# EAGLE library part TPS62901RPJR (library TPS62901RPJR)
Conv DC-DC 3V to 17V Synchronous Step Down Single-Out 0.4V to 5.5V 1A T/R Source: Datasheet <https://www.ti.com/lit/ds/symlink/tps62901.pdf?ts=1622532312813&ref_url=https%3A%2F%2Fwww.ti.com%2Fpower-management%2Fnon-isolated-dc-dc-switching-regulators%2Fstep-down-buck%2Fbuck-converter-integrated-switch%2Fproducts.html>
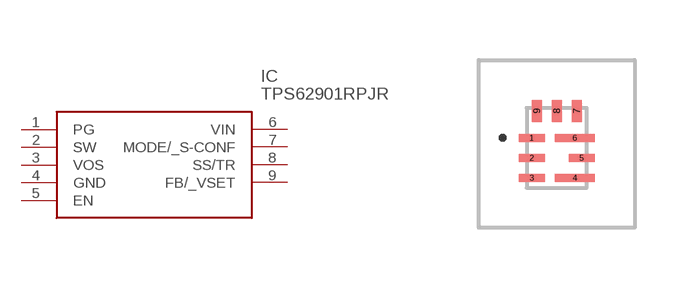
[diagram p0: symbol with the pads of TPS62901RPJR; footprint TPS62901RPJR]

Designator prefix IC

## TPS62901RPJR (Arrow_Part_Number: TPS62901RPJR; Arrow_Price-Stock: https://www.arrow.com/en/products/tps62901rpjr/texas-instruments?region=nac; Description: Conv DC-DC 3V to 17V Synchronous Step Down Single-Out 0.4V to 5.5V 1A T/R; Height: 1mm; Manufacturer_Name: Texas Instruments; Manufacturer_Part_Number: TPS62901RPJR; Mouser_Part_Number: 595-TPS62901RPJR; Mouser_Price-Stock: https://www.mouser.co.uk/ProductDetail/Texas-Instruments/TPS62901RPJR?qs=DRkmTr78QATDXNNljpwn1Q%3D%3D)  [TPS62901RPJR]
1  PG
2  SW
3  VOS
4  GND
5  EN
6  VIN
7  MODE/_S-CONF
8  SS/TR
9  FB/_VSET

## Footprint TPS62901RPJR (pad centres in mm)
TPS62901RPJR-4
smd 0.65 x 0.2: 1 -0.625,0.25; 2 -0.625,-0.25; 3 -0.625,-0.75; 5 0.625,-0.25
smd 1 x 0.2: 4 0.45,-0.75; 6 0.45,0.25
smd 0.25 x 0.55: 7 0.5,0.925; 8 0,0.925; 9 -0.5,0.925